# EAGLE library part MCP4151T-502E/MS (library LM317)
Microchip MCP4151T-502E/MS: 5K Digital Potentiometer-SPI Specifications: Manufacturer: Microchip VDD Operating Range: 1.8-5.5V Maximum Current into Pot: 2.5mA Resistance: 5K Communication Scheme: SPI Resistor Network Resolution: 256 Datasheet: MCP4151T-502E/MS <https://www.mouser.com/datasheet/2/268/22060a-53835.pdf> Mouser Part#: 579-MCP4151T-502E/MS <https://www.mouser.com/ProductDetail/Microchip-Technology/MCP4151T-502E-MS?qs=sGAEpiMZZMuD%2f7PTYBwKqfDph4xMc6S2Pj2Nsus7uv8%3d>
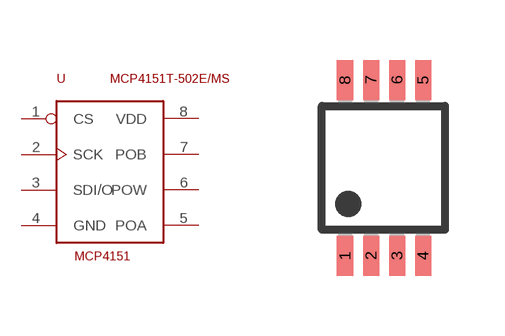
[diagram p0: symbol with the pads of DGK_S-PDSO-G8; footprint DGK_S-PDSO-G8]

Designator prefix U

## MCP4151T-502E/MS  [DGK_S-PDSO-G8]
1  CS  in
2  SCK  in
3  SDI/O  in
4  GND  in
5  POA  in
6  POW  in
7  POB  in
8  VDD  in

## Footprint DGK_S-PDSO-G8 (pad centres in mm)
8-Pin MSOP (DGK) Package Source: DGK (S-PDSO-G8) <http://www.ti.com/lit/ml/mpds028d/mpds028d.pdf>
smd 0.4 x 1: 1 -0.975,-2.2; 2 -0.325,-2.2; 3 0.325,-2.2; 4 0.975,-2.2; 5 0.975,2.2; 6 0.325,2.2; 7 -0.325,2.2; 8 -0.975,2.2